# Altium footprint library V.PcbLib: 33 footprints (part 1 of 3)
Each footprint in its own frame and in the unit in brackets; x right, y up, seen from the top. Pads: shape width x height; smd on the part's side, far side on the other; paste and mask are expansions set on the pad; w line width, h text height; cw(c..) or ccw(c..) is an arc to the next point about the centre after c.
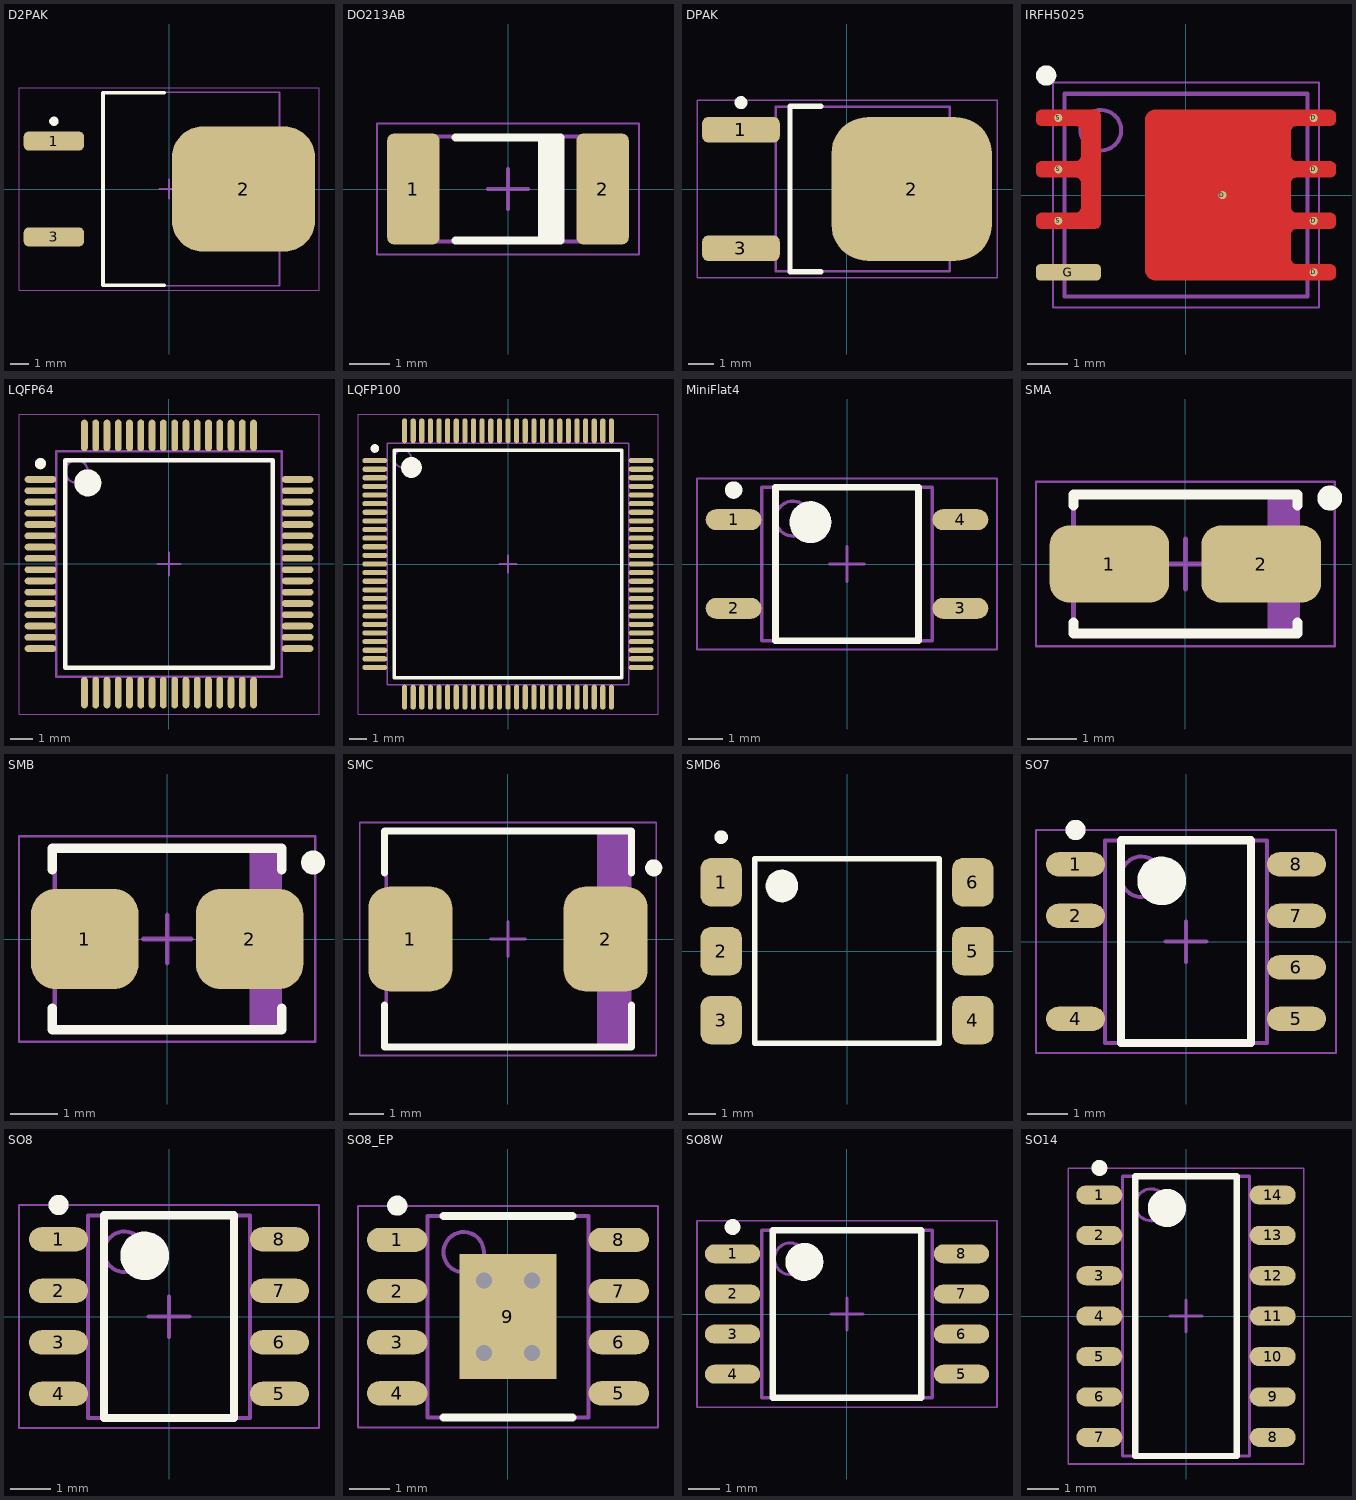
[diagram p0: the footprints below, top view; thin cyan lines are the x and y axes]

## D2PAK [mm] "D2-PAK, 3-Pads, Body 7.77x8.48mm (max), IPC Medium Density"
height 4.58
pads (3):
  rrect50% 3.2x1 smd: 1(-6.1,2.54) 3(-6.1,-2.54)
  rrect50% 7.6x6.65 smd: 2(3.95,0)
Top Overlay:
  circle w0.25: c-6.1,3.59 r0.125
  lines w0.2: -0.25,-5.1 -3.5,-5.1 -3.5,5.1 -0.25,5.1
Mechanical 14:
  lines w0.1: -3.5,-5.125 5.85,-5.125 5.85,5.125 -3.5,5.125 -3.5,-5.125
Mechanical 15:
  lines w0.05: -7.95,-5.375 7.95,-5.375 7.95,5.375 -7.95,5.375 -7.95,-5.375
  lines w0.1: -0.5,0 0.5,0 ; 0,-0.5 0,0.5
3D body "D2PAK.step": height 5.08, standoff 0, extent -7.745,-5.325 7.5,5.325

## DO213AB [mm] "MELF Diode, 2-Leads, Body 5.00x2.50mm, IPC Medium Density"
height 2.6
pads (2):
  rrect25% 1.3x2.75 smd: 1(-2.35,0) 2(2.35,0)
Top Overlay:
  rectangle: 0.75,-1.275 1.3,1.275
  lines w0.2: -1.3,-1.275 1.3,-1.275 1.3,1.275 -1.3,1.275
Mechanical 14:
  lines w0.1: -2.6,-1.3 -2.6,1.3 2.6,1.3 2.6,-1.3 -2.6,-1.3
Mechanical 15:
  lines w0.05: -3.25,-1.625 -3.25,1.625 3.25,1.625 3.25,-1.625 -3.25,-1.625
  lines w0.1: -0.5,0 0.5,0 ; 0,-0.5 0,0.5
3D body "DO213AB.step": height 2.5, standoff 0, extent -2.5,-1.25 2.5,1.25

## DPAK [mm] "D-PAK, 3-Pads, Body 6.47x6.53mm (max), IPC Medium Density"
height 2.38
pads (3):
  rrect50% 3x1 smd: 1(-4.1,2.29) 3(-4.1,-2.29)
  rrect50% 6.2x5.55 smd: 2(2.5,0)
Top Overlay:
  circle w0.25: c-4.1,3.34 r0.125
  lines w0.2: -1,-3.2 -2.2,-3.2 -2.2,3.2 -1,3.2
Mechanical 14:
  lines w0.1: -2.75,-3.175 3.98,-3.175 3.98,3.175 -2.75,3.175 -2.75,-3.175
Mechanical 15:
  lines w0.05: -5.8,-3.425 5.8,-3.425 5.8,3.425 -5.8,3.425 -5.8,-3.425
  lines w0.1: -0.5,0 0.5,0 ; 0,-0.5 0,0.5
3D body "DPAK.step": height 2.38, standoff 0, extent -4.42,-3.175 5.485,3.175

## IRFH5025 [mm] "PQFN, 8-Leads, Body 6.00x5.00mm, Pitch 1.27mm, Thermal Pad 3.00x3.00mm, IPC Medium Density"
height 0.9
pads (9):
  round 0.2 smd paste+0: D(0.9,0) D(3.15,-1.905) D(3.15,-0.635) D(3.15,0.635) D(3.15,1.905) S(-3.15,-0.635) S(-3.15,0.635) S(-3.15,1.905)
  rrect50% 1.6x0.4 smd: G(-2.9,-1.905)
Top Layer:
  region: -3.55,-0.835 -3.58,-0.835 -3.635,-0.812 -3.677,-0.77 -3.7,-0.715 -3.7,-0.685 -3.7,-0.585 -3.7,-0.555 -3.677,-0.5 -3.635,-0.458 -3.58,-0.435 -3.55,-0.435 -2.73,-0.435 -2.701,-0.432 -2.647,-0.41 -2.605,-0.368 -2.583,-0.314 -2.58,-0.285 -2.58,0.285 -2.583,0.314 -2.605,0.368 -2.647,0.41 -2.701,0.432 -2.73,0.435 -3.55,0.435 -3.58,0.435 -3.635,0.458 -3.677,0.5 -3.7,0.555 -3.7,0.585 -3.7,0.685 -3.7,0.715 -3.677,0.77 -3.635,0.812 -3.58,0.835 -3.55,0.835 -2.73,0.835 -2.701,0.838 -2.647,0.86 -2.605,0.902 -2.583,0.956 -2.58,0.985 -2.58,1.555 -2.583,1.584 -2.605,1.638 -2.647,1.68 -2.701,1.702 -2.73,1.705 -3.55,1.705 -3.58,1.705 -3.635,1.728 -3.677,1.77 -3.7,1.825 -3.7,1.855 -3.7,1.955 -3.7,1.985 -3.677,2.04 -3.635,2.082 -3.58,2.105 -3.55,2.105 -2.25,2.105 -2.22,2.105 -2.165,2.082 -2.123,2.04 -2.1,1.985 -2.1,1.955 -2.1,-0.685 -2.1,-0.715 -2.123,-0.77 -2.165,-0.812 -2.22,-0.835 -2.25,-0.835
  region: -1,-1.855 -1,-1.905 -0.962,-1.997 -0.892,-2.067 -0.8,-2.105 -0.75,-2.105 3.55,-2.105 3.58,-2.105 3.635,-2.082 3.677,-2.04 3.7,-1.985 3.7,-1.955 3.7,-1.855 3.7,-1.825 3.677,-1.77 3.635,-1.728 3.58,-1.705 3.55,-1.705 2.73,-1.705 2.701,-1.702 2.647,-1.68 2.605,-1.638 2.583,-1.584 2.58,-1.555 2.58,-0.985 2.583,-0.956 2.605,-0.902 2.647,-0.86 2.701,-0.838 2.73,-0.835 3.55,-0.835 3.58,-0.835 3.635,-0.812 3.677,-0.77 3.7,-0.715 3.7,-0.685 3.7,-0.585 3.7,-0.555 3.677,-0.5 3.635,-0.458 3.58,-0.435 3.55,-0.435 2.73,-0.435 2.701,-0.432 2.647,-0.41 2.605,-0.368 2.583,-0.314 2.58,-0.285 2.58,0.285 2.583,0.314 2.605,0.368 2.647,0.41 2.701,0.432 2.73,0.435 3.55,0.435 3.58,0.435 3.635,0.458 3.677,0.5 3.7,0.555 3.7,0.585 3.7,0.685 3.7,0.715 3.677,0.77 3.635,0.812 3.58,0.835 3.55,0.835 2.73,0.835 2.701,0.838 2.647,0.86 2.605,0.902 2.583,0.956 2.58,0.985 2.58,1.555 2.583,1.584 2.605,1.638 2.647,1.68 2.701,1.702 2.73,1.705 3.555,1.705 3.584,1.705 3.637,1.727 3.678,1.768 3.7,1.821 3.7,1.85 3.7,1.955 3.7,1.985 3.677,2.04 3.635,2.082 3.58,2.105 3.55,2.105 -0.75,2.105 -0.8,2.105 -0.892,2.067 -0.962,1.997 -1,1.905 -1,1.855
Top Overlay:
  circle w0.25: c-3.45,2.95 r0.125
Mechanical 14:
  circle w0.1: c-2.1,1.6 r0.5
  lines w0.1: -3,-2.5 -3,2.5 3,2.5 3,-2.5 -3,-2.5
Mechanical 15:
  lines w0.05: -3.275,-2.775 -3.275,2.775 3.275,2.775 3.275,-2.775 -3.275,-2.775
  lines w0.1: -0.5,0 0.5,0 ; 0,-0.5 0,0.5

## LQFP64 [mm] "TSQFP, 64-Leads, Body 10.00x10.00mm, Pitch 0.50mm, IPC Medium Density"
height 1.6
pads (64):
  oval 1.4x0.3 smd: 1(-5.7,3.75) 2(-5.7,3.25) 3(-5.7,2.75) 4(-5.7,2.25) 5(-5.7,1.75) 6(-5.7,1.25) 7(-5.7,0.75) 8(-5.7,0.25) 9(-5.7,-0.25) 10(-5.7,-0.75) 11(-5.7,-1.25) 12(-5.7,-1.75) 13(-5.7,-2.25) 14(-5.7,-2.75) 15(-5.7,-3.25) 16(-5.7,-3.75) 33(5.7,-3.75) 34(5.7,-3.25) 35(5.7,-2.75) 36(5.7,-2.25) 37(5.7,-1.75) 38(5.7,-1.25) 39(5.7,-0.75) 40(5.7,-0.25) 41(5.7,0.25) 42(5.7,0.75) 43(5.7,1.25) 44(5.7,1.75) 45(5.7,2.25) 46(5.7,2.75) 47(5.7,3.25) 48(5.7,3.75)
  oval 0.3x1.4 smd: 17(-3.75,-5.7) 18(-3.25,-5.7) 19(-2.75,-5.7) 20(-2.25,-5.7) 21(-1.75,-5.7) 22(-1.25,-5.7) 23(-0.75,-5.7) 24(-0.25,-5.7) 25(0.25,-5.7) 26(0.75,-5.7) 27(1.25,-5.7) 28(1.75,-5.7) 29(2.25,-5.7) 30(2.75,-5.7) 31(3.25,-5.7) 32(3.75,-5.7) 49(3.75,5.7) 50(3.25,5.7) 51(2.75,5.7) 52(2.25,5.7) 53(1.75,5.7) 54(1.25,5.7) 55(0.75,5.7) 56(0.25,5.7) 57(-0.25,5.7) 58(-0.75,5.7) 59(-1.25,5.7) 60(-1.75,5.7) 61(-2.25,5.7) 62(-2.75,5.7) 63(-3.25,5.7) 64(-3.75,5.7)
Top Overlay:
  circle w0.6: c-3.6,3.6 r0.3
  circle w0.25: c-5.7,4.45 r0.125
  lines w0.2: -4.6,-4.6 4.6,-4.6 4.6,4.6 -4.6,4.6 -4.6,-4.6
Top Solder:
  region: -4,-6.5 -4,-4.9 4,-4.9 4,-6.5
  region: -4,6.5 -4,4.9 4,4.9 4,6.5
  region: 6.5,4 4.9,4 4.9,-4 6.5,-4
  region: -6.5,4 -4.9,4 -4.9,-4 -6.5,-4
Mechanical 14:
  circle w0.1: c-4.1,4.1 r0.5
  lines w0.1: -5,-5 5,-5 5,5 -5,5 -5,-5
Mechanical 15:
  lines w0.05: -6.65,-6.65 6.65,-6.65 6.65,6.65 -6.65,6.65 -6.65,-6.65
  lines w0.1: -0.5,0 0.5,0 ; 0,-0.5 0,0.5
3D body "LQFP64.step": height 1.6, standoff 0, extent -6,-6 6,6

## LQFP100 [mm] "TSQFP, 100-Leads, Body 14.00x14.00mm, Pitch 0.50mm, IPC Medium Density"
height 1.6
pads (100):
  oval 1.45x0.3 smd: 1(-7.725,6) 2(-7.725,5.5) 3(-7.725,5) 4(-7.725,4.5) 5(-7.725,4) 6(-7.725,3.5) 7(-7.725,3) 8(-7.725,2.5) 9(-7.725,2) 10(-7.725,1.5) 11(-7.725,1) 12(-7.725,0.5) 13(-7.725,0) 14(-7.725,-0.5) 15(-7.725,-1) 16(-7.725,-1.5) 17(-7.725,-2) 18(-7.725,-2.5) 19(-7.725,-3) 20(-7.725,-3.5) 21(-7.725,-4) 22(-7.725,-4.5) 23(-7.725,-5) 24(-7.725,-5.5) 25(-7.725,-6) 51(7.725,-6) 52(7.725,-5.5) 53(7.725,-5) 54(7.725,-4.5) 55(7.725,-4) 56(7.725,-3.5) 57(7.725,-3) 58(7.725,-2.5) 59(7.725,-2) 60(7.725,-1.5) 61(7.725,-1) 62(7.725,-0.5) 63(7.725,0) 64(7.725,0.5) 65(7.725,1) 66(7.725,1.5) 67(7.725,2) 68(7.725,2.5) 69(7.725,3) 70(7.725,3.5) 71(7.725,4) 72(7.725,4.5) 73(7.725,5) 74(7.725,5.5) 75(7.725,6)
  oval 0.3x1.45 smd: 26(-6,-7.725) 27(-5.5,-7.725) 28(-5,-7.725) 29(-4.5,-7.725) 30(-4,-7.725) 31(-3.5,-7.725) 32(-3,-7.725) 33(-2.5,-7.725) 34(-2,-7.725) 35(-1.5,-7.725) 36(-1,-7.725) 37(-0.5,-7.725) 38(0,-7.725) 39(0.5,-7.725) 40(1,-7.725) 41(1.5,-7.725) 42(2,-7.725) 43(2.5,-7.725) 44(3,-7.725) 45(3.5,-7.725) 46(4,-7.725) 47(4.5,-7.725) 48(5,-7.725) 49(5.5,-7.725) 50(6,-7.725) 76(6,7.725) 77(5.5,7.725) 78(5,7.725) 79(4.5,7.725) 80(4,7.725) 81(3.5,7.725) 82(3,7.725) 83(2.5,7.725) 84(2,7.725) 85(1.5,7.725) 86(1,7.725) 87(0.5,7.725) 88(0,7.725) 89(-0.5,7.725) 90(-1,7.725) 91(-1.5,7.725) 92(-2,7.725) 93(-2.5,7.725) 94(-3,7.725) 95(-3.5,7.725) 96(-4,7.725) 97(-4.5,7.725) 98(-5,7.725) 99(-5.5,7.725) 100(-6,7.725)
Top Overlay:
  circle w0.6: c-5.6,5.6 r0.3
  circle w0.25: c-7.725,6.7 r0.125
  lines w0.2: -6.6,-6.6 6.6,-6.6 6.6,6.6 -6.6,6.6 -6.6,-6.6
Top Solder:
  region: -6.3,-8.6 -6.3,-6.9 6.3,-6.9 6.3,-8.6
  region: -6.3,8.6 -6.3,6.9 6.3,6.9 6.3,8.6
  region: 8.6,6.3 6.9,6.3 6.9,-6.3 8.6,-6.3
  region: -8.6,6.3 -6.9,6.3 -6.9,-6.3 -8.6,-6.3
Mechanical 14:
  circle w0.1: c-6.1,6.1 r0.5
  lines w0.1: -7,-7 7,-7 7,7 -7,7 -7,-7
Mechanical 15:
  lines w0.05: -8.7,-8.7 8.7,-8.7 8.7,8.7 -8.7,8.7 -8.7,-8.7
  lines w0.1: -0.5,0 0.5,0 ; 0,-0.5 0,0.5
3D body "LQFP100.step": height 1.6, standoff 0, extent -8,-8 8,8

## MiniFlat4 [mm] "SOP, 4-Leads, Body 3.90x4.40mm, Pitch 2.54mm, IPC Medium Density"
height 2.5
pads (4):
  oval 1.6x0.6 smd: 1(-3.25,1.27) 2(-3.25,-1.27) 3(3.25,-1.27) 4(3.25,1.27)
Top Overlay:
  circle w0.6: c-1.05,1.2 r0.3
  circle w0.25: c-3.25,2.12 r0.125
  lines w0.2: -2.05,-2.2 2.05,-2.2 2.05,2.2 -2.05,2.2 -2.05,-2.2
Mechanical 14:
  circle w0.1: c-1.55,1.3 r0.5
  lines w0.1: -2.45,-2.2 2.45,-2.2 2.45,2.2 -2.45,2.2 -2.45,-2.2
Mechanical 15:
  lines w0.05: -4.3,-2.45 4.3,-2.45 4.3,2.45 -4.3,2.45 -4.3,-2.45
  lines w0.1: -0.5,0 0.5,0 ; 0,-0.5 0,0.5
3D body "MiniFlat4.step": height 2.5, standoff 0, extent -3.5,-2.2 3.5,2.2

## SMA [mm] "Molded Diode, 2-Leads, Body 4.25x2.67mm, IPC Medium Density"
height 2.29
pads (2):
  rrect50% 2.4x1.55 smd: 1(-1.525,0) 2(1.525,0)
Top Overlay:
  circle w0.25: c2.9,1.325 r0.125
  lines w0.2: -2.25,-1.175 -2.25,-1.4 2.25,-1.4 2.25,-1.175 ; -2.25,1.175 -2.25,1.4 2.25,1.4 2.25,1.175
Mechanical 14:
  rectangle: 1.645,-1.395 2.25,1.395
  lines w0.1: -2.25,-1.395 -2.25,1.395 2.25,1.395 2.25,-1.395 -2.25,-1.395
Mechanical 15:
  lines w0.05: -3,-1.65 -3,1.65 3,1.65 3,-1.65 -3,-1.65
  lines w0.1: -0.5,0 0.5,0 ; 0,-0.5 0,0.5
3D body "SMA.step": height 2.23, standoff 0, extent -2.52,-1.475 2.52,1.475

## SMB [mm] "Molded Diode, 2-Leads, Body 4.40x3.55mm, IPC Medium Density"
height 2.4
pads (2):
  rrect50% 2.25x2.1 smd: 1(-1.725,0) 2(1.725,0)
Top Overlay:
  circle w0.25: c3.05,1.6 r0.125
  lines w0.2: -2.4,-1.45 -2.4,-1.9 2.4,-1.9 2.4,-1.45 ; -2.4,1.45 -2.4,1.9 2.4,1.9 2.4,1.45
Mechanical 14:
  rectangle: 1.718,-1.9 2.35,1.9
  lines w0.1: -2.35,-1.9 -2.35,1.9 2.35,1.9 2.35,-1.9 -2.35,-1.9
Mechanical 15:
  lines w0.05: -3.1,-2.15 -3.1,2.15 3.1,2.15 3.1,-2.15 -3.1,-2.15
  lines w0.1: -0.5,0 0.5,0 ; 0,-0.5 0,0.5
3D body "SMA.step": height 2.23, standoff 0, extent -2.52,-1.475 2.52,1.475

## SMC [mm] "Molded Diode, 2-Leads, Body 6.85x5.90mm, IPC Medium Density"
height 2.62
pads (2):
  rrect50% 2.45x3.05 smd: 1(-2.85,0) 2(2.85,0)
Top Overlay:
  circle w0.25: c4.25,2.075 r0.125
  lines w0.2: -3.6,-1.925 -3.6,-3.15 3.6,-3.15 3.6,-1.925 ; -3.6,1.925 -3.6,3.15 3.6,3.15 3.6,1.925
Mechanical 14:
  rectangle: 2.599,-3.11 3.555,3.11
  lines w0.1: -3.555,-3.11 3.555,-3.11 3.555,3.11 -3.555,3.11 -3.555,-3.11
Mechanical 15:
  lines w0.05: -4.325,-3.4 4.325,-3.4 4.325,3.4 -4.325,3.4 -4.325,-3.4
  lines w0.1: -0.5,0 0.5,0 ; 0,-0.5 0,0.5
3D body "SMC.step": height 2.62, standoff 0, extent -3.775,-3.11 3.775,3.11

## SMD6 [mm]
height 5.08
pads (6):
  rrect50% 1.52x1.78 smd: 1(-4.635,2.54) 2(-4.635,0) 3(-4.635,-2.54) 4(4.635,-2.54) 5(4.635,0) 6(4.635,2.54)
Top Overlay:
  circle w0.6: c-2.4,2.4 r0.3
  circle w0.25: c-4.635,4.2 r0.125
  lines w0.2: -3.4,-3.4 -3.4,3.4 3.4,3.4 3.4,-3.4 -3.4,-3.4

## SO7 [mm] "SOIC, 8-Leads, Body 4.90x3.90mm, Pitch 1.27mm, IPC Medium Density"
height 1.75
pads (7):
  oval 1.45x0.6 smd: 1(-2.725,1.905) 2(-2.725,0.635) 4(-2.725,-1.905) 5(2.725,-1.905) 6(2.725,-0.635) 7(2.725,0.635) 8(2.725,1.905)
Top Overlay:
  circle w0.6: c-0.6,1.5 r0.3
  circle w0.25: c-2.725,2.755 r0.125
  lines w0.2: -1.6,-2.5 1.6,-2.5 1.6,2.5 -1.6,2.5 -1.6,-2.5
Mechanical 14:
  circle w0.1: c-1.1,1.6 r0.5
  lines w0.1: -2,-2.5 2,-2.5 2,2.5 -2,2.5 -2,-2.5
Mechanical 15:
  lines w0.05: -3.7,-2.75 3.7,-2.75 3.7,2.75 -3.7,2.75 -3.7,-2.75
  lines w0.1: -0.5,0 0.5,0 ; 0,-0.5 0,0.5
3D body "SO8.step": height 1.75, standoff 0, extent -3,-2.5 3,2.5

## SO8 [mm] "SOIC, 8-Leads, Body 4.90x3.90mm, Pitch 1.27mm, IPC Medium Density"
height 1.75
pads (8):
  oval 1.45x0.6 smd: 1(-2.725,1.905) 2(-2.725,0.635) 3(-2.725,-0.635) 4(-2.725,-1.905) 5(2.725,-1.905) 6(2.725,-0.635) 7(2.725,0.635) 8(2.725,1.905)
Top Overlay:
  circle w0.6: c-0.6,1.5 r0.3
  circle w0.25: c-2.725,2.755 r0.125
  lines w0.2: -1.6,-2.5 1.6,-2.5 1.6,2.5 -1.6,2.5 -1.6,-2.5
Mechanical 14:
  circle w0.1: c-1.1,1.6 r0.5
  lines w0.1: -2,-2.5 2,-2.5 2,2.5 -2,2.5 -2,-2.5
Mechanical 15:
  lines w0.05: -3.7,-2.75 3.7,-2.75 3.7,2.75 -3.7,2.75 -3.7,-2.75
  lines w0.1: -0.5,0 0.5,0 ; 0,-0.5 0,0.5
3D body "SO8.step": height 1.75, standoff 0, extent -3,-2.5 3,2.5

## SO8_EP [mm] "SOIC, 8-Leads, Body 4.90x3.90mm, Pitch 1.27mm, Thermal Pad 3.10x2.41mm, IPC Medium Density"
height 1.68
pads (9):
  oval 1.5x0.6 smd: 1(-2.75,1.905) 2(-2.75,0.635) 3(-2.75,-0.635) 4(-2.75,-1.905) 5(2.75,-1.905) 6(2.75,-0.635) 7(2.75,0.635) 8(2.75,1.905)
  rect 2.41x3.1 smd: 9(0,0)
via 0.6,0.9 diameter 0.9 hole 0.4
via -0.6,-0.9 diameter 0.9 hole 0.4
via 0.6,-0.9 diameter 0.9 hole 0.4
via -0.6,0.9 diameter 0.9 hole 0.4
Top Overlay:
  circle w0.25: c-2.75,2.755 r0.125
  lines w0.2: -1.6,-2.5 1.6,-2.5 ; -1.6,2.5 1.6,2.5
Mechanical 14:
  circle w0.1: c-1.1,1.6 r0.5
  lines w0.1: -2,-2.5 -2,2.5 2,2.5 2,-2.5 -2,-2.5
Mechanical 15:
  lines w0.05: -3.725,-2.75 -3.725,2.75 3.725,2.75 3.725,-2.75 -3.725,-2.75
  lines w0.1: -0.5,0 0.5,0 ; 0,-0.5 0,0.5
3D body "SO8_EP.step": height 1.68, standoff 0, extent -3.01,-2.5 3.01,2.5

## SO8W [mm] "SOIC, 8-Leads, Body 5.23x5.28mm, Pitch 1.27mm, IPC Medium Density"
height 2.03
pads (8):
  oval 1.75x0.6 smd: 1(-3.625,1.905) 2(-3.625,0.635) 3(-3.625,-0.635) 4(-3.625,-1.905) 5(3.625,-1.905) 6(3.625,-0.635) 7(3.625,0.635) 8(3.625,1.905)
Top Overlay:
  circle w0.6: c-1.35,1.65 r0.3
  circle w0.25: c-3.625,2.755 r0.125
  lines w0.2: -2.35,-2.65 2.35,-2.65 2.35,2.65 -2.35,2.65 -2.35,-2.65
Mechanical 14:
  circle w0.1: c-1.8,1.75 r0.5
  lines w0.1: -2.7,-2.65 2.7,-2.65 2.7,2.65 -2.7,2.65 -2.7,-2.65
Mechanical 15:
  lines w0.05: -4.75,-2.95 4.75,-2.95 4.75,2.95 -4.75,2.95 -4.75,-2.95
  lines w0.1: -0.5,0 0.5,0 ; 0,-0.5 0,0.5
3D body "SO8W.step": height 2.03, standoff 0, extent -4.002,-2.65 4.002,2.65

## SO14 [mm] "SOIC, 14-Leads, Body 8.65x3.90mm, Pitch 1.27mm, IPC Medium Density"
height 1.75
pads (14):
  oval 1.45x0.6 smd: 1(-2.725,3.81) 2(-2.725,2.54) 3(-2.725,1.27) 4(-2.725,0) 5(-2.725,-1.27) 6(-2.725,-2.54) 7(-2.725,-3.81) 8(2.725,-3.81) 9(2.725,-2.54) 10(2.725,-1.27) 11(2.725,0) 12(2.725,1.27) 13(2.725,2.54) 14(2.725,3.81)
Top Overlay:
  circle w0.25: c-2.725,4.66 r0.125
  circle w0.6: c-0.6,3.4 r0.3
  lines w0.2: -1.6,-4.4 -1.6,4.4 1.6,4.4 1.6,-4.4 -1.6,-4.4
Mechanical 14:
  circle w0.1: c-1.1,3.5 r0.5
  lines w0.1: -2,-4.4 -2,4.4 2,4.4 2,-4.4 -2,-4.4
Mechanical 15:
  lines w0.05: -3.7,-4.65 -3.7,4.65 3.7,4.65 3.7,-4.65 -3.7,-4.65
  lines w0.1: -0.5,0 0.5,0 ; 0,-0.5 0,0.5
3D body "SO14.step": height 1.75, standoff 0, extent -3,-4.4 3,4.4